# EAGLE library part MCP3008 (library custom)
Dual In Line / Socket
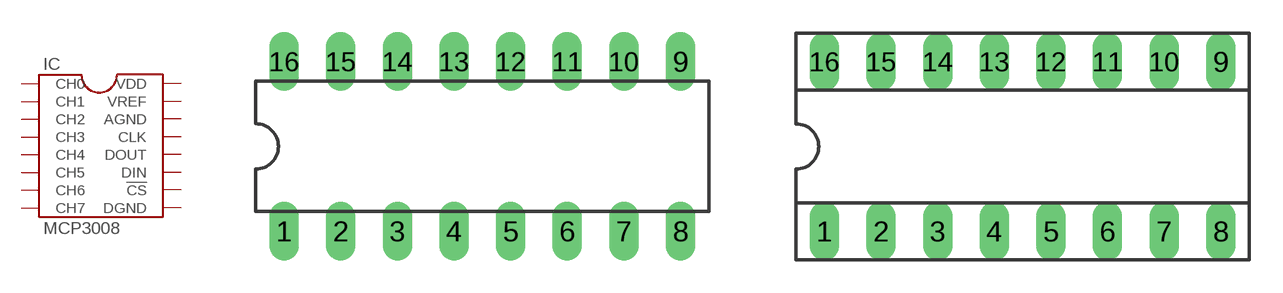
[diagram p2: symbol with the pads of DIL16; footprints DIL16, SOCKET-16]

Designator prefix IC

## MCP3008  [DIL16]
1  CH0  pas
2  CH1  pas
3  CH2  pas
4  CH3  pas
5  CH4  pas
6  CH5  pas
7  CH6  pas
8  CH7  pas
9  DGND  pas
10  !CS  pas
11  DIN  pas
12  DOUT  pas
13  CLK  pas
14  AGND  pas
15  VREF  pas
16  VDD  pas

## MCP3008S  [SOCKET-16]

## Footprint DIL16 (pad centres in mm)
Dual In Line Package
drill 0.813 long: 1 -8.89,-3.81; 2 -6.35,-3.81; 3 -3.81,-3.81; 4 -1.27,-3.81; 5 1.27,-3.81; 6 3.81,-3.81; 7 6.35,-3.81; 8 8.89,-3.81; 9 8.89,3.81; 10 6.35,3.81; 11 3.81,3.81; 12 1.27,3.81; 13 -1.27,3.81; 14 -3.81,3.81; 15 -6.35,3.81; 16 -8.89,3.81

## Footprint SOCKET-16 (pad centres in mm)
Dual In Line Socket
drill 0.813 long: 1 -8.89,-3.81; 2 -6.35,-3.81; 3 -3.81,-3.81; 4 -1.27,-3.81; 5 1.27,-3.81; 6 3.81,-3.81; 7 6.35,-3.81; 8 8.89,-3.81; 9 8.89,3.81; 10 6.35,3.81; 11 3.81,3.81; 12 1.27,3.81; 13 -1.27,3.81; 14 -3.81,3.81; 15 -6.35,3.81; 16 -8.89,3.81